# EAGLE library part M10 (library header)
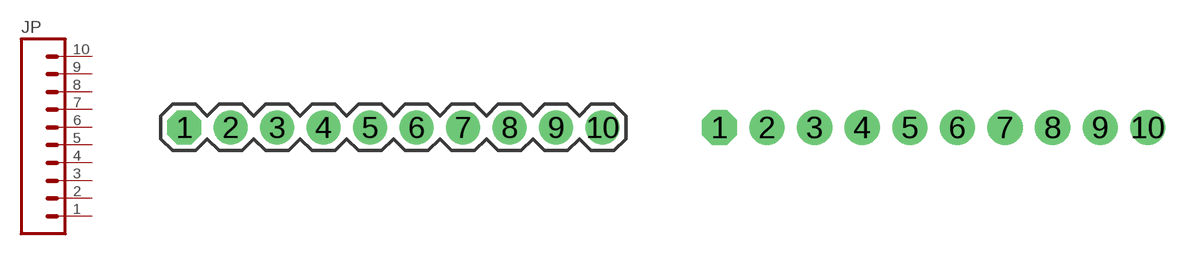
[diagram p3: symbol with the pads of 1X10; footprints 1X10, 1X10-NOSILK]

Designator prefix JP

## M10STD  [1X10]
1  1  pas
2  2  pas
3  3  pas
4  4  pas
5  5  pas
6  6  pas
7  7  pas
8  8  pas
9  9  pas
10  10  pas

## M10NOSILK  [1X10-NOSILK]
Pads as for 1X10

## M101.27  [1X10-1.27]
Pads as for 1X10

## M101.27-NOSILK  [1X10-1.27-NOSILK]
Pads as for 1X10

## M10NOSILK-NOMARK  [1X10-NOSILK-NOMARK]
Pads as for 1X10

## Footprint 1X10 (pad centres in mm)
drill 1.016 pad 1.88 octagon: 1 0,0
drill 1.016 pad 1.88: 2 2.54,0; 3 5.08,0; 4 7.62,0; 5 10.16,0; 6 12.7,0; 7 15.24,0; 8 17.78,0; 9 20.32,0; 10 22.86,0

## Footprint 1X10-NOSILK (pad centres in mm)
drill 1.016 pad 1.88 octagon: 1 0,0
drill 1.016 pad 1.88: 2 2.54,0; 3 5.08,0; 4 7.62,0; 5 10.16,0; 6 12.7,0; 7 15.24,0; 8 17.78,0; 9 20.32,0; 10 22.86,0

## Footprint 1X10-1.27 (pad centres in mm)
drill 0.7 pad 1 octagon: 1 0,0
drill 0.7 pad 1: 2 1.27,0; 3 2.54,0; 4 3.81,0; 5 5.08,0; 6 6.35,0; 7 7.62,0; 8 8.89,0; 9 10.16,0; 10 11.43,0

## Footprint 1X10-1.27-NOSILK (pad centres in mm)
drill 0.7 pad 1 octagon: 1 0,0
drill 0.7 pad 1: 2 1.27,0; 3 2.54,0; 4 3.81,0; 5 5.08,0; 6 6.35,0; 7 7.62,0; 8 8.89,0; 9 10.16,0; 10 11.43,0

## Footprint 1X10-NOSILK-NOMARK (pad centres in mm)
drill 1 pad 1.778: 1 0,0; 2 2.54,0; 3 5.08,0; 4 7.62,0; 5 10.16,0; 6 12.7,0; 7 15.24,0; 8 17.78,0; 9 20.32,0; 10 22.86,0